# EAGLE library part XC3S200FT256 (library xilinx_spartan3_virtex4_and_5)
Xilinx FPGA
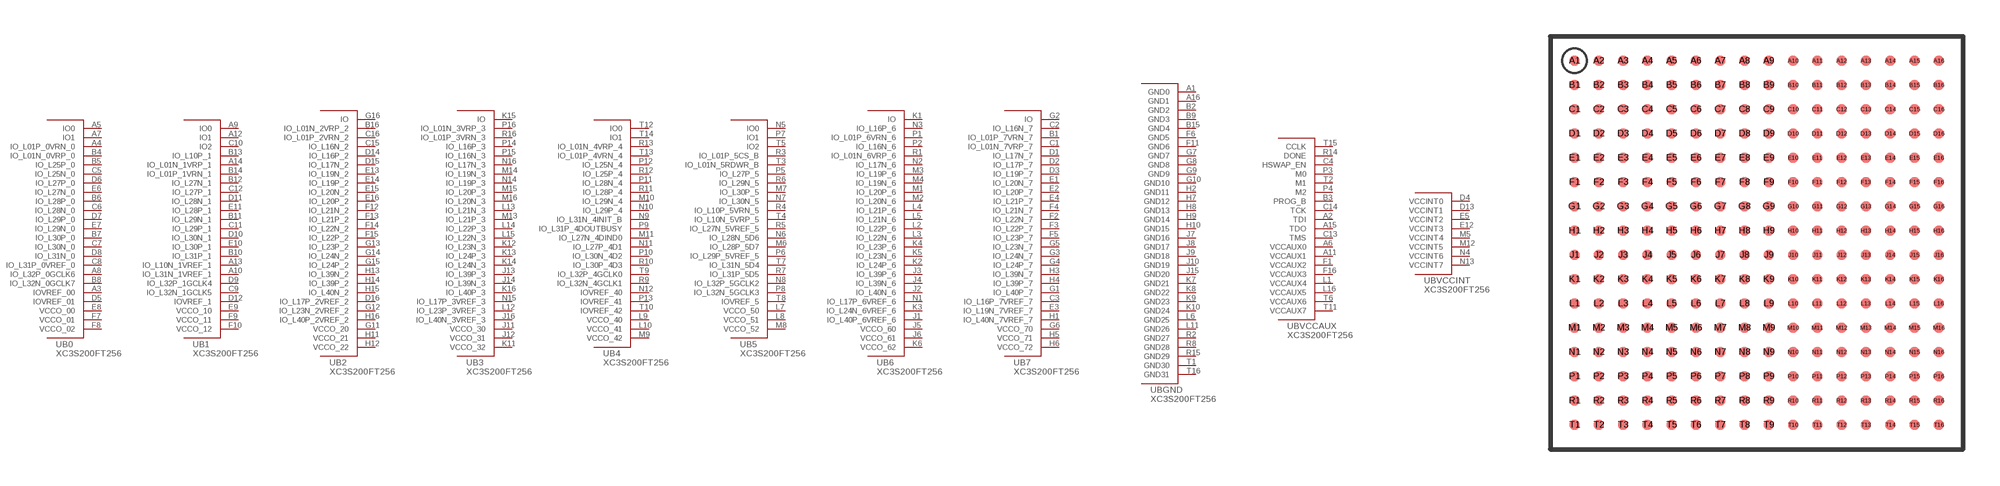
[diagram p9: symbol with the pads of FT256; footprint FT256]

Designator prefix U; gates B0=XC3S200FT256_0 B1=XC3S200FT256_1 B2=XC3S200FT256_2 B3=XC3S200FT256_3 B4=XC3S200FT256_4 B5=XC3S200FT256_5 B6=XC3S200FT256_6 B7=XC3S200FT256_7 BGND=XC3S200FT256_GND BVCCAUX=XC3S200FT256_VCCAUX BVCCINT=XC3S200FT256_VCCINT

## XC3S200FT256  [FT256]
A1  BGND:GND0  pas
A2  BVCCAUX:TDI
A3  B0:IOVREF_00
A4  B0:IO_L01P_0VRN_0
A5  B0:IO0
A6  BVCCAUX:VCCAUX0  pas
A7  B0:IO1
A8  B0:IO_L32P_0GCLK6
A9  B1:IO0
A10  B1:IO_L31N_1VREF_1
A11  BVCCAUX:VCCAUX1  pas
A12  B1:IO1
A13  B1:IO_L10N_1VREF_1
A14  B1:IO_L01N_1VRP_1
A15  BVCCAUX:TDO
A16  BGND:GND1  pas
B1  B7:IO_L01P_7VRN_7
B2  BGND:GND2  pas
B3  BVCCAUX:PROG_B
B4  B0:IO_L01N_0VRP_0
B5  B0:IO_L25P_0
B6  B0:IO_L28P_0
B7  B0:IO_L30P_0
B8  B0:IO_L32N_0GCLK7
B9  BGND:GND3  pas
B10  B1:IO_L31P_1
B11  B1:IO_L29N_1
B12  B1:IO_L27N_1
B13  B1:IO_L10P_1
B14  B1:IO_L01P_1VRN_1
B15  BGND:GND4  pas
B16  B2:IO_L01N_2VRP_2
C1  B7:IO_L01N_7VRP_7
C2  B7:IO_L16N_7
C3  B7:IO_L16P_7VREF_7
C4  BVCCAUX:HSWAP_EN
C5  B0:IO_L25N_0
C6  B0:IO_L28N_0
C7  B0:IO_L30N_0
C8  B0:IO_L31P_0VREF_0
C9  B1:IO_L32N_1GCLK5
C10  B1:IO2
C11  B1:IO_L29P_1
C12  B1:IO_L27P_1
C13  BVCCAUX:TMS
C14  BVCCAUX:TCK
C15  B2:IO_L16N_2
C16  B2:IO_L01P_2VRN_2
D1  B7:IO_L17N_7
D2  B7:IO_L17P_7
D3  B7:IO_L19P_7
D4  BVCCINT:VCCINT0  pas
D5  B0:IOVREF_01
D6  B0:IO_L27P_0
D7  B0:IO_L29P_0
D8  B0:IO_L31N_0
D9  B1:IO_L32P_1GCLK4
D10  B1:IO_L30N_1
D11  B1:IO_L28N_1
D12  B1:IOVREF_1
D13  BVCCINT:VCCINT1  pas
D14  B2:IO_L16P_2
D15  B2:IO_L17N_2
D16  B2:IO_L17P_2VREF_2
E1  B7:IO_L20N_7
E2  B7:IO_L20P_7
E3  B7:IO_L19N_7VREF_7
E4  B7:IO_L21P_7
E5  BVCCINT:VCCINT2  pas
E6  B0:IO_L27N_0
E7  B0:IO_L29N_0
E8  B0:VCCO_00  pas
E9  B1:VCCO_10  pas
E10  B1:IO_L30P_1
E11  B1:IO_L28P_1
E12  BVCCINT:VCCINT3  pas
E13  B2:IO_L19N_2
E14  B2:IO_L19P_2
E15  B2:IO_L20N_2
E16  B2:IO_L20P_2
F1  BVCCAUX:VCCAUX2  pas
F2  B7:IO_L22N_7
F3  B7:IO_L22P_7
F4  B7:IO_L21N_7
F5  B7:IO_L23P_7
F6  BGND:GND5  pas
F7  B0:VCCO_01  pas
F8  B0:VCCO_02  pas
F9  B1:VCCO_11  pas
F10  B1:VCCO_12  pas
F11  BGND:GND6  pas
F12  B2:IO_L21N_2
F13  B2:IO_L21P_2
F14  B2:IO_L22N_2
F15  B2:IO_L22P_2
F16  BVCCAUX:VCCAUX3  pas
G1  B7:IO_L40P_7
G2  B7:IO
G3  B7:IO_L24N_7
G4  B7:IO_L24P_7
G5  B7:IO_L23N_7
G6  B7:VCCO_70  pas
G7  BGND:GND7  pas
G8  BGND:GND8  pas
G9  BGND:GND9  pas
G10  BGND:GND10  pas
G11  B2:VCCO_20  pas
G12  B2:IO_L23N_2VREF_2
G13  B2:IO_L23P_2
G14  B2:IO_L24N_2
G15  B2:IO_L24P_2
G16  B2:IO
H1  B7:IO_L40N_7VREF_7
H2  BGND:GND11  pas
H3  B7:IO_L39N_7
H4  B7:IO_L39P_7
H5  B7:VCCO_71  pas
H6  B7:VCCO_72  pas
H7  BGND:GND12  pas
H8  BGND:GND13  pas
H9  BGND:GND14  pas
H10  BGND:GND15  pas
H11  B2:VCCO_21  pas
H12  B2:VCCO_22  pas
H13  B2:IO_L39N_2
H14  B2:IO_L39P_2
H15  B2:IO_L40N_2
H16  B2:IO_L40P_2VREF_2
J1  B6:IO_L40P_6VREF_6
J2  B6:IO_L40N_6
J3  B6:IO_L39P_6
J4  B6:IO_L39N_6
J5  B6:VCCO_60  pas
J6  B6:VCCO_61  pas
J7  BGND:GND16  pas
J8  BGND:GND17  pas
J9  BGND:GND18  pas
J10  BGND:GND19  pas
J11  B3:VCCO_30  pas
J12  B3:VCCO_31  pas
J13  B3:IO_L39P_3
J14  B3:IO_L39N_3
J15  BGND:GND20  pas
J16  B3:IO_L40N_3VREF_3
K1  B6:IO
K2  B6:IO_L24P_6
K3  B6:IO_L24N_6VREF_6
K4  B6:IO_L23P_6
K5  B6:IO_L23N_6
K6  B6:VCCO_62  pas
K7  BGND:GND21  pas
K8  BGND:GND22  pas
K9  BGND:GND23  pas
K10  BGND:GND24  pas
K11  B3:VCCO_32  pas
K12  B3:IO_L23N_3
K13  B3:IO_L24P_3
K14  B3:IO_L24N_3
K15  B3:IO
K16  B3:IO_L40P_3
L1  BVCCAUX:VCCAUX4  pas
L2  B6:IO_L22P_6
L3  B6:IO_L22N_6
L4  B6:IO_L21P_6
L5  B6:IO_L21N_6
L6  BGND:GND25  pas
L7  B5:VCCO_50  pas
L8  B5:VCCO_51  pas
L9  B4:VCCO_40  pas
L10  B4:VCCO_41  pas
L11  BGND:GND26  pas
L12  B3:IO_L23P_3VREF_3
L13  B3:IO_L21N_3
L14  B3:IO_L22P_3
L15  B3:IO_L22N_3
L16  BVCCAUX:VCCAUX5  pas
M1  B6:IO_L20P_6
M2  B6:IO_L20N_6
M3  B6:IO_L19P_6
M4  B6:IO_L19N_6
M5  BVCCINT:VCCINT4  pas
M6  B5:IO_L28P_5D7
M7  B5:IO_L30P_5
M8  B5:VCCO_52  pas
M9  B4:VCCO_42  pas
M10  B4:IO_L29N_4
M11  B4:IO_L27N_4DIND0
M12  BVCCINT:VCCINT5  pas
M13  B3:IO_L21P_3
M14  B3:IO_L19N_3
M15  B3:IO_L20P_3
M16  B3:IO_L20N_3
N1  B6:IO_L17P_6VREF_6
N2  B6:IO_L17N_6
N3  B6:IO_L16P_6
N4  BVCCINT:VCCINT6  pas
N5  B5:IO0
N6  B5:IO_L28N_5D6
N7  B5:IO_L30N_5
N8  B5:IO_L32P_5GCLK2
N9  B4:IO_L31N_4INIT_B
N10  B4:IO_L29P_4
N11  B4:IO_L27P_4D1
N12  B4:IOVREF_40
N13  BVCCINT:VCCINT7  pas
N14  B3:IO_L19P_3
N15  B3:IO_L17P_3VREF_3
N16  B3:IO_L17N_3
P1  B6:IO_L01P_6VRN_6
P2  B6:IO_L16N_6
P3  BVCCAUX:M0
P4  BVCCAUX:M2
P5  B5:IO_L27P_5
P6  B5:IO_L29P_5VREF_5
P7  B5:IO1
P8  B5:IO_L32N_5GCLK3
P9  B4:IO_L31P_4DOUTBUSY
P10  B4:IO_L30N_4D2
P11  B4:IO_L28N_4
P12  B4:IO_L25N_4
P13  B4:IOVREF_41
P14  B3:IO_L16P_3
P15  B3:IO_L16N_3
P16  B3:IO_L01N_3VRP_3
R1  B6:IO_L01N_6VRP_6
R2  BGND:GND27  pas
R3  B5:IO_L01P_5CS_B
R4  B5:IO_L10P_5VRN_5
R5  B5:IO_L27N_5VREF_5
R6  B5:IO_L29N_5
R7  B5:IO_L31P_5D5
R8  BGND:GND28  pas
R9  B4:IO_L32N_4GCLK1
R10  B4:IO_L30P_4D3
R11  B4:IO_L28P_4
R12  B4:IO_L25P_4
R13  B4:IO_L01N_4VRP_4
R14  BVCCAUX:DONE
R15  BGND:GND29  pas
R16  B3:IO_L01P_3VRN_3
T1  BGND:GND30  pas
T2  BVCCAUX:M1
T3  B5:IO_L01N_5RDWR_B
T4  B5:IO_L10N_5VRP_5
T5  B5:IO2
T6  BVCCAUX:VCCAUX6  pas
T7  B5:IO_L31N_5D4
T8  B5:IOVREF_5
T9  B4:IO_L32P_4GCLK0
T10  B4:IOVREF_42
T11  BVCCAUX:VCCAUX7  pas
T12  B4:IO0
T13  B4:IO_L01P_4VRN_4
T14  B4:IO1
T15  BVCCAUX:CCLK
T16  BGND:GND31  pas

## Footprint FT256 (pad centres in mm)
smd 0.4 x 0.4: A1 -7.5,7.5; A2 -6.5,7.5; A3 -5.5,7.5; A4 -4.5,7.5; A5 -3.5,7.5; A6 -2.5,7.5; A7 -1.5,7.5; A8 -0.5,7.5; A9 0.5,7.5; A10 1.5,7.5; A11 2.5,7.5; A12 3.5,7.5; A13 4.5,7.5; A14 5.5,7.5; A15 6.5,7.5; A16 7.5,7.5; B1 -7.5,6.5; B2 -6.5,6.5; B3 -5.5,6.5; B4 -4.5,6.5; B5 -3.5,6.5; B6 -2.5,6.5; B7 -1.5,6.5; B8 -0.5,6.5; B9 0.5,6.5; B10 1.5,6.5; B11 2.5,6.5; B12 3.5,6.5; B13 4.5,6.5; B14 5.5,6.5; B15 6.5,6.5; B16 7.5,6.5; C1 -7.5,5.5; C2 -6.5,5.5; C3 -5.5,5.5; C4 -4.5,5.5; C5 -3.5,5.5; C6 -2.5,5.5; C7 -1.5,5.5; C8 -0.5,5.5; C9 0.5,5.5; C10 1.5,5.5; C11 2.5,5.5; C12 3.5,5.5; C13 4.5,5.5; C14 5.5,5.5; C15 6.5,5.5; C16 7.5,5.5; D1 -7.5,4.5; D2 -6.5,4.5; D3 -5.5,4.5; D4 -4.5,4.5; D5 -3.5,4.5; D6 -2.5,4.5; D7 -1.5,4.5; D8 -0.5,4.5; D9 0.5,4.5; D10 1.5,4.5; D11 2.5,4.5; D12 3.5,4.5; D13 4.5,4.5; D14 5.5,4.5; D15 6.5,4.5; D16 7.5,4.5; E1 -7.5,3.5; E2 -6.5,3.5; E3 -5.5,3.5; E4 -4.5,3.5; E5 -3.5,3.5; E6 -2.5,3.5; E7 -1.5,3.5; E8 -0.5,3.5; E9 0.5,3.5; E10 1.5,3.5; E11 2.5,3.5; E12 3.5,3.5; E13 4.5,3.5; E14 5.5,3.5; E15 6.5,3.5; E16 7.5,3.5; F1 -7.5,2.5; F2 -6.5,2.5; F3 -5.5,2.5; F4 -4.5,2.5; F5 -3.5,2.5; F6 -2.5,2.5; F7 -1.5,2.5; F8 -0.5,2.5; F9 0.5,2.5; F10 1.5,2.5; F11 2.5,2.5; F12 3.5,2.5; F13 4.5,2.5; F14 5.5,2.5; F15 6.5,2.5; F16 7.5,2.5; G1 -7.5,1.5; G2 -6.5,1.5; G3 -5.5,1.5; G4 -4.5,1.5; G5 -3.5,1.5; G6 -2.5,1.5; G7 -1.5,1.5; G8 -0.5,1.5; G9 0.5,1.5; G10 1.5,1.5; G11 2.5,1.5; G12 3.5,1.5; G13 4.5,1.5; G14 5.5,1.5; G15 6.5,1.5; G16 7.5,1.5; H1 -7.5,0.5; H2 -6.5,0.5; H3 -5.5,0.5; H4 -4.5,0.5; H5 -3.5,0.5; H6 -2.5,0.5; H7 -1.5,0.5; H8 -0.5,0.5; H9 0.5,0.5; H10 1.5,0.5; H11 2.5,0.5; H12 3.5,0.5; H13 4.5,0.5; H14 5.5,0.5; H15 6.5,0.5; H16 7.5,0.5; J1 -7.5,-0.5; J2 -6.5,-0.5; J3 -5.5,-0.5; J4 -4.5,-0.5; J5 -3.5,-0.5; J6 -2.5,-0.5; J7 -1.5,-0.5; J8 -0.5,-0.5; J9 0.5,-0.5; J10 1.5,-0.5; J11 2.5,-0.5; J12 3.5,-0.5; J13 4.5,-0.5; J14 5.5,-0.5; J15 6.5,-0.5; J16 7.5,-0.5; K1 -7.5,-1.5; K2 -6.5,-1.5; K3 -5.5,-1.5; K4 -4.5,-1.5; K5 -3.5,-1.5; K6 -2.5,-1.5; K7 -1.5,-1.5; K8 -0.5,-1.5; K9 0.5,-1.5; K10 1.5,-1.5; K11 2.5,-1.5; K12 3.5,-1.5; K13 4.5,-1.5; K14 5.5,-1.5; K15 6.5,-1.5; K16 7.5,-1.5; L1 -7.5,-2.5; L2 -6.5,-2.5; L3 -5.5,-2.5; L4 -4.5,-2.5; L5 -3.5,-2.5; L6 -2.5,-2.5; L7 -1.5,-2.5; L8 -0.5,-2.5; L9 0.5,-2.5; L10 1.5,-2.5; L11 2.5,-2.5; L12 3.5,-2.5; L13 4.5,-2.5; L14 5.5,-2.5; L15 6.5,-2.5; L16 7.5,-2.5; M1 -7.5,-3.5; M2 -6.5,-3.5; M3 -5.5,-3.5; M4 -4.5,-3.5; M5 -3.5,-3.5; M6 -2.5,-3.5; M7 -1.5,-3.5; M8 -0.5,-3.5; M9 0.5,-3.5; M10 1.5,-3.5; M11 2.5,-3.5; M12 3.5,-3.5; M13 4.5,-3.5; M14 5.5,-3.5; M15 6.5,-3.5; M16 7.5,-3.5; N1 -7.5,-4.5; N2 -6.5,-4.5; N3 -5.5,-4.5; N4 -4.5,-4.5; N5 -3.5,-4.5; N6 -2.5,-4.5; N7 -1.5,-4.5; N8 -0.5,-4.5; N9 0.5,-4.5; N10 1.5,-4.5; N11 2.5,-4.5; N12 3.5,-4.5; N13 4.5,-4.5; N14 5.5,-4.5; N15 6.5,-4.5; N16 7.5,-4.5; P1 -7.5,-5.5; P2 -6.5,-5.5; P3 -5.5,-5.5; P4 -4.5,-5.5; P5 -3.5,-5.5; P6 -2.5,-5.5; P7 -1.5,-5.5; P8 -0.5,-5.5; P9 0.5,-5.5; P10 1.5,-5.5; P11 2.5,-5.5; P12 3.5,-5.5; P13 4.5,-5.5; P14 5.5,-5.5; P15 6.5,-5.5; P16 7.5,-5.5; R1 -7.5,-6.5; R2 -6.5,-6.5; R3 -5.5,-6.5; R4 -4.5,-6.5; R5 -3.5,-6.5; R6 -2.5,-6.5; R7 -1.5,-6.5; R8 -0.5,-6.5; R9 0.5,-6.5; R10 1.5,-6.5; R11 2.5,-6.5; R12 3.5,-6.5; R13 4.5,-6.5; R14 5.5,-6.5; R15 6.5,-6.5; R16 7.5,-6.5; T1 -7.5,-7.5; T2 -6.5,-7.5; T3 -5.5,-7.5; T4 -4.5,-7.5; T5 -3.5,-7.5; T6 -2.5,-7.5; T7 -1.5,-7.5; T8 -0.5,-7.5; T9 0.5,-7.5; T10 1.5,-7.5; T11 2.5,-7.5; T12 3.5,-7.5; T13 4.5,-7.5; T14 5.5,-7.5; T15 6.5,-7.5; T16 7.5,-7.5